# EAGLE library part UPC1237HA (library Audio-Power-amlifier V.2.0)
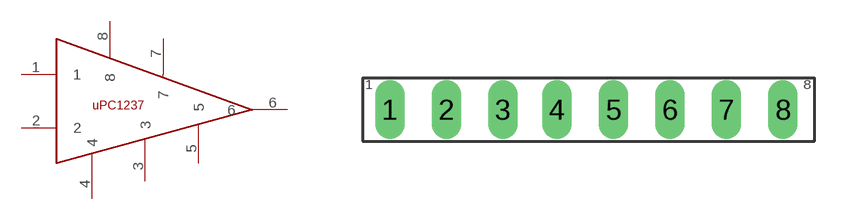
[diagram p12: symbol with the pads of SIP8; footprint SIP8]

Designator prefix U

## UPC1237HA  [SIP8]
1  1
2  2
3  3
4  4
5  5
6  6
7  7
8  8

## Footprint SIP8 (pad centres in mm)
drill 0.8 long: 1 -8.8,3.6; 2 -6.3,3.6; 3 -3.8,3.6; 4 -1.4,3.6; 5 1.1,3.6; 6 3.6,3.6; 7 6.1,3.6; 8 8.6,3.6